# EAGLE library part AAT3620_BATT_CHARGER (library Controller Board)
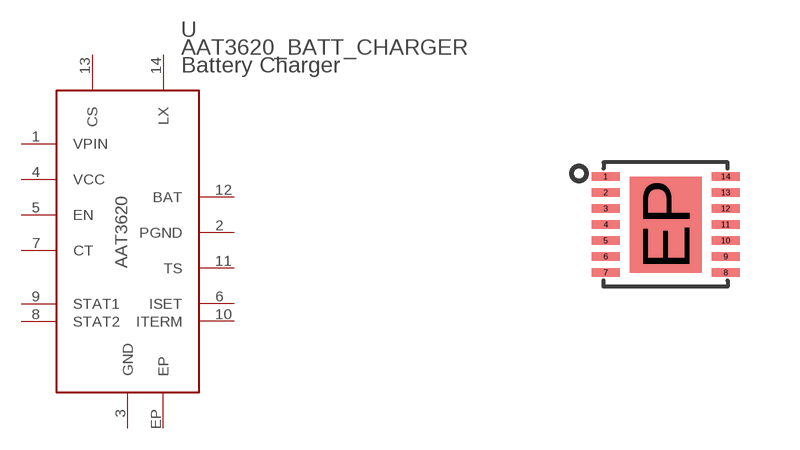
[diagram p3: symbol with the pads of AAT3620_TDFN; footprint AAT3620_TDFN]

Designator prefix -

## AAT3620_BATT_CHARGER  [AAT3620_TDFN]
1  VPIN  pwr
2  PGND  pwr
3  GND  pwr
4  VCC  pwr
5  EN
6  ISET
7  CT
8  STAT2
9  STAT1
10  ITERM
11  TS
12  BAT  pwr
13  CS
14  LX
EP  EP  pwr

## Footprint AAT3620_TDFN (pad centres in mm)
smd 0.7 x 0.22: 1 -1.5,1.2; 2 -1.5,0.8; 3 -1.5,0.4; 4 -1.5,0; 5 -1.5,-0.4; 6 -1.5,-0.8; 7 -1.5,-1.2; 8 1.5,-1.2; 9 1.5,-0.8; 10 1.5,-0.4; 11 1.5,0; 12 1.5,0.4; 13 1.5,0.8; 14 1.5,1.2
smd 1.8 x 2.4: EP 0,0